# EAGLE library part TEENSY_4.1 (library Teensy4-1)
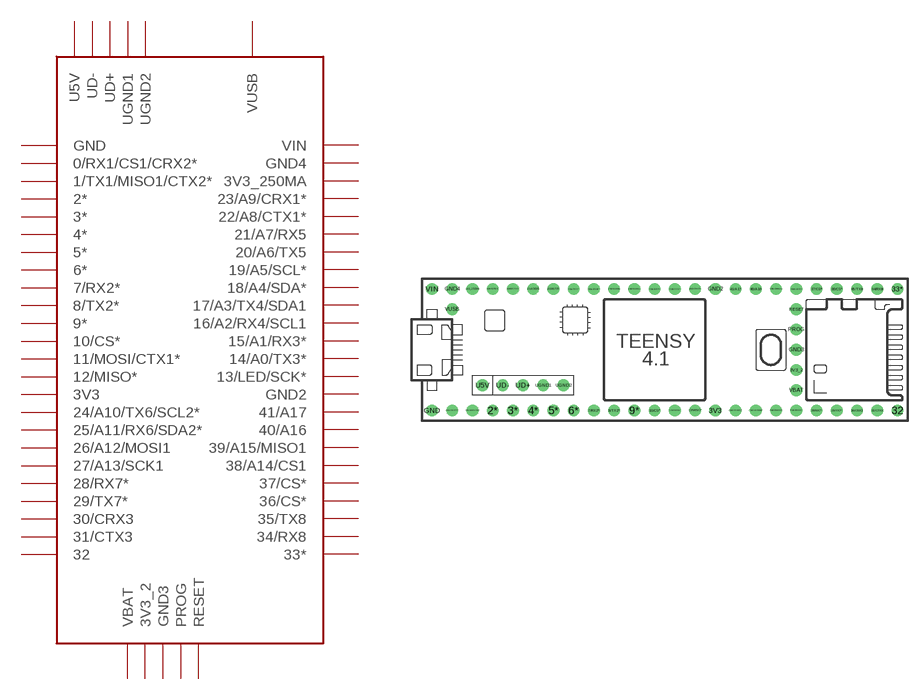
[diagram p0: symbol with the pads of TEENSY_4.1; footprint TEENSY_4.1]

Designator prefix -

## TEENSY_4.1  [TEENSY_4.1]
0/RX1/CS1/CRX2*  0/RX1/CS1/CRX2*
1/TX1/MISO1/CTX2*  1/TX1/MISO1/CTX2*
2*  2*
3*  3*
3V3  3V3
3V3_2  3V3_2
3V3_250MA  3V3_250MA
4*  4*
5*  5*
6*  6*
7/RX2*  7/RX2*
8/TX2*  8/TX2*
9*  9*
10/CS*  10/CS*
11/MOSI/CTX1*  11/MOSI/CTX1*
12/MISO*  12/MISO*
13/LED/SCK*  13/LED/SCK*
14/A0/TX3*  14/A0/TX3*
15/A1/RX3*  15/A1/RX3*
16/A2/RX4/SCL1  16/A2/RX4/SCL1
17/A3/TX4/SDA1  17/A3/TX4/SDA1
18/A4/SDA*  18/A4/SDA*
19/A5/SCL*  19/A5/SCL*
20/A6/TX5  20/A6/TX5
21/A7/RX5  21/A7/RX5
22/A8/CTX1*  22/A8/CTX1*
23/A9/CRX1*  23/A9/CRX1*
24/A10/TX6/SCL2*  24/A10/TX6/SCL2*
25/A11/RX6/SDA2*  25/A11/RX6/SDA2*
26/A12/MOSI1  26/A12/MOSI1
27/A13/SCK1  27/A13/SCK1
28/RX7*  28/RX7*
29/TX7*  29/TX7*
30/CRX3  30/CRX3
31/CTX3  31/CTX3
32  32
33*  33*
34/RX8  34/RX8
35/TX8  35/TX8
36/CS*  36/CS*
37/CS*  37/CS*
38/A14/CS1  38/A14/CS1
39/A15/MISO1  39/A15/MISO1
40/A16  40/A16
41/A17  41/A17
GND  GND
GND2  GND2
GND3  GND3
GND4  GND4
PROG  PROG
RESET  RESET
U5V  U5V
UD+  UD+
UD-  UD-
UGND1  UGND1
UGND2  UGND2
VBAT  VBAT
VIN  VIN
VUSB  VUSB

## Footprint TEENSY_4.1 (pad centres in mm)
Teensy 4.1 Microcontroller: https://www.pjrc.com/teensy/pinout.html
drill 0.965: 0/RX1/CS1/CRX2* -25.4,-7.62; 1/TX1/MISO1/CTX2* -22.86,-7.62; 2* -20.32,-7.62; 3* -17.78,-7.62; 3V3 7.62,-7.62; 3V3_2 17.78,-2.54; 3V3_250MA -22.86,7.62; 4* -15.24,-7.62; 5* -12.7,-7.62; 6* -10.16,-7.62; 7/RX2* -7.62,-7.62; 8/TX2* -5.08,-7.62; 9* -2.54,-7.62; 10/CS* 0,-7.62; 11/MOSI/CTX1* 2.54,-7.62; 12/MISO* 5.08,-7.62; 13/LED/SCK* 5.08,7.62; 14/A0/TX3* 2.54,7.62; 15/A1/RX3* 0,7.62; 16/A2/RX4/SCL1 -2.54,7.62; 17/A3/TX4/SDA1 -5.08,7.62; 18/A4/SDA* -7.62,7.62; 19/A5/SCL* -10.16,7.62; 20/A6/TX5 -12.7,7.62; 21/A7/RX5 -15.24,7.62; 22/A8/CTX1* -17.78,7.62; 23/A9/CRX1* -20.32,7.62; 24/A10/TX6/SCL2* 10.16,-7.62; 25/A11/RX6/SDA2* 12.7,-7.62; 26/A12/MOSI1 15.24,-7.62; 27/A13/SCK1 17.78,-7.62; 28/RX7* 20.32,-7.62; 29/TX7* 22.86,-7.62; 30/CRX3 25.4,-7.62; 31/CTX3 27.94,-7.62; 32 30.48,-7.62; 33* 30.48,7.62; 34/RX8 27.94,7.62; 35/TX8 25.4,7.62; 36/CS* 22.86,7.62; 37/CS* 20.32,7.62; 38/A14/CS1 17.78,7.62; 39/A15/MISO1 15.24,7.62; 40/A16 12.7,7.62; 41/A17 10.16,7.62; GND -27.94,-7.62; GND2 7.62,7.62; GND3 17.78,0; GND4 -25.4,7.62; PROG 17.78,2.54; RESET 17.78,5.08; U5V -21.59,-4.445; UD+ -16.51,-4.445; UD- -19.05,-4.445; UGND1 -13.97,-4.445; UGND2 -11.43,-4.445; VBAT 17.78,-5.08; VIN -27.94,7.62; VUSB -25.4,5.08